# EAGLE library part X9C104 (library elements_cs2016)
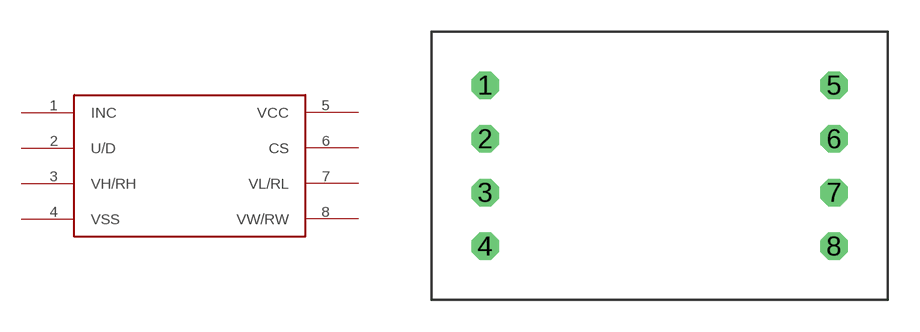
[diagram p1: symbol with the pads of X9C104; footprint X9C104]

Designator prefix -

## X9C104  [X9C104]
1  INC
2  U/D
3  VH/RH
4  VSS
5  VCC
6  CS
7  VL/RL
8  VW/RW

## Footprint X9C104 (pad centres in mm)
drill 0.8 octagon: 1 -8.89,5.08; 2 -8.89,2.54; 3 -8.89,0; 4 -8.89,-2.54; 5 7.62,5.08; 6 7.62,2.54; 7 7.62,0; 8 7.62,-2.54